# Altium footprint library E32-400M30S-Pcb-V1.0.PcbLib: 1 footprints
Each footprint in its own frame and in the unit in brackets; x right, y up, seen from the top. Pads: shape width x height; smd on the part's side, far side on the other; paste and mask are expansions set on the pad; w line width, h text height; cw(c..) or ccw(c..) is an arc to the next point about the centre after c.
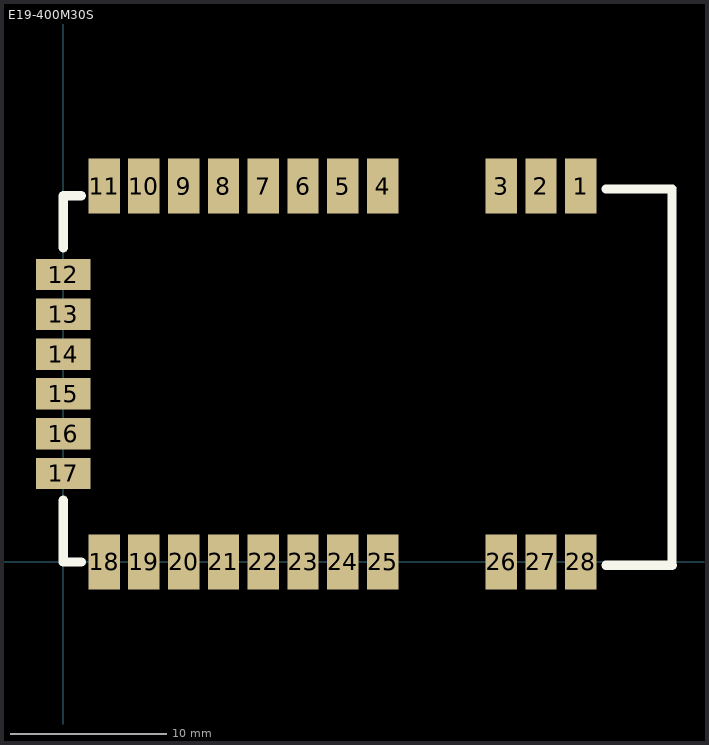
[diagram p0: the footprint, top view; thin cyan lines are the x and y axes]

## E19-400M30S [mm]
pads (28):
  rect 2x3.5 smd: 1(33.04,24) 2(30.5,24) 3(27.96,24) 4(20.39,24) 5(17.85,24) 6(15.31,24) 7(12.77,24) 8(10.23,24) 9(7.69,24) 10(5.15,24) 11(2.61,24) 18(2.61,0) 19(5.15,0) 20(7.69,0) 21(10.23,0) 22(12.77,0) 23(15.31,0) 24(17.85,0) 25(20.39,0) 26(27.96,0) 27(30.5,0) 28(33.04,0)
  rect 3.5x2 smd: 12(0,18.35) 13(0,15.81) 14(0,13.27) 15(0,10.73) 16(0,8.19) 17(0,5.65)
Top Overlay:
  lines w0.6: 0,3.937 0,0 1.143,0 ; 0,20.066 0,23.368 1.143,23.368 ; 34.656,-0.21 38.872,-0.21 cw(c38.872,-0.204) 38.867,-0.204 38.867,23.808 ccw(c38.864,23.808) 38.864,23.81 34.656,23.81 ; 35.139,-0.21 ccw(c35.139,-0.21) 35.139,-0.21